# Altium footprint library c1206polar.PcbLib: 1 footprints
Each footprint in its own frame and in the unit in brackets; x right, y up, seen from the top. Pads: shape width x height; smd on the part's side, far side on the other; paste and mask are expansions set on the pad; w line width, h text height; cw(c..) or ccw(c..) is an arc to the next point about the centre after c.
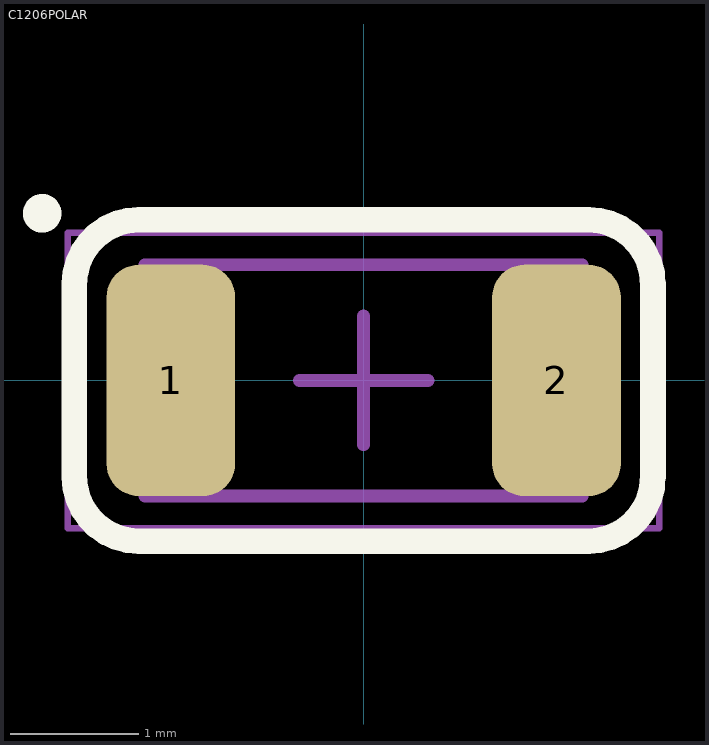
[diagram p0: the footprint, top view; thin cyan lines are the x and y axes]

## C1206POLAR [mm] "Chip Capacitor, 2-Leads, Body 3,20x1,60mm, IPC Medium Density"
height 1.8
pads (2):
  rrect50% 1x1.8 smd: 1(-1.5,0) 2(1.5,0)
Top Overlay:
  circle w0.2: c-2.5,1.3 r0.05
  lines w0.2: -2.25,-0.75 ccw(c-1.75,-0.75) -1.75,-1.25 1.75,-1.25 ccw(c1.75,-0.75) 2.25,-0.75 2.25,0.75 ccw(c1.75,0.75) 1.75,1.25 -1.75,1.25 ccw(c-1.75,0.75) -2.25,0.75 -2.25,-0.75
Top Comment:
  text ".Comment" at 1,1.5 h1.2
Top Designator:
  text ".Designator" at -0.5,1.5 h1.2
Top Component Outline:
  lines w0.1: -1.7,-0.9 1.7,-0.9 1.7,0.9 -1.7,0.9 -1.7,-0.9
Top Courtyard (Mech15):
  lines w0.05: -2.3,-1.15 2.3,-1.15 2.3,1.15 -2.3,1.15 -2.3,-1.15
  lines w0.1: -0.5,0 0.5,0 ; 0,-0.5 0,0.5
3D body "User Library-CaseA.STEP": height 1.65, standoff -0.01, extent -1.731,-0.8 1.732,0.8